# Altium footprint library 5016.PcbLib: 1 footprints
Each footprint in its own frame and in the unit in brackets; x right, y up, seen from the top. Pads: shape width x height; smd on the part's side, far side on the other; paste and mask are expansions set on the pad; w line width, h text height; cw(c..) or ccw(c..) is an arc to the next point about the centre after c.
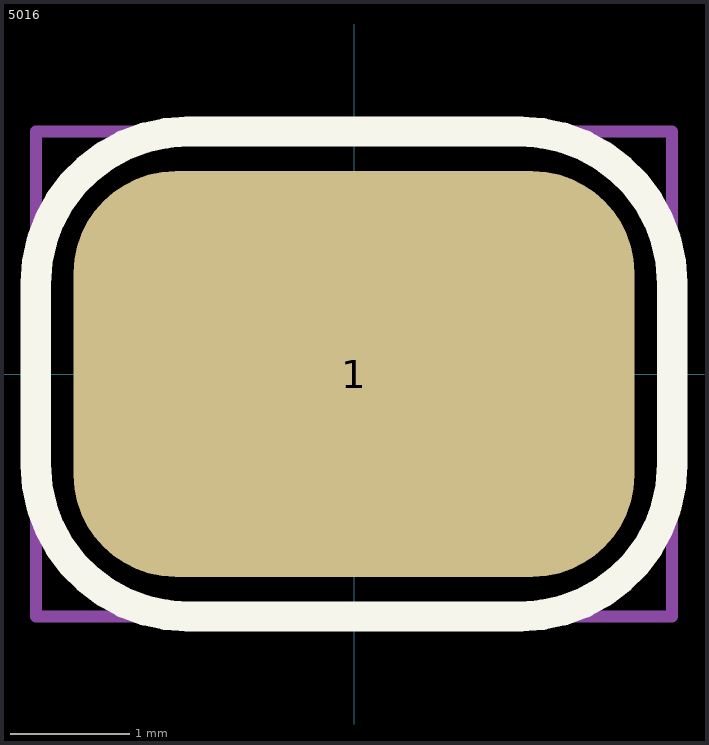
[diagram p0: the footprint, top view; thin cyan lines are the x and y axes]

## 5016 [mm] "SMD Testpoint"
pads (1):
  rrect50% 4.7x3.4 smd: 1(0,0)
Top Overlay:
  lines w0.254: -1.143,2.032 1.397,2.032 cw(c1.397,0.762) 2.667,0.762 2.667,-0.762 cw(c1.397,-0.762) 1.397,-2.032 -1.397,-2.032 cw(c-1.397,-0.762) -2.667,-0.762 -2.667,0.762 cw(c-1.397,0.762) -1.397,2.032 -1.016,2.032
Top Assembly:
  lines w0.1: -2.032,-1.397 2.032,-1.397 2.032,1.397 -2.032,1.397 -2.032,-1.397
Top Courtyard:
  lines w0.1: -2.667,-2.032 -2.667,2.032 2.667,2.032 2.667,-2.032 -2.667,-2.032
3D body "User Library-GP.SLDPRT": height 2.3, standoff 0, extent -1.895,-1.4 1.905,1.4